# EAGLE library part SN76489 (library 07-Retrocomputing)
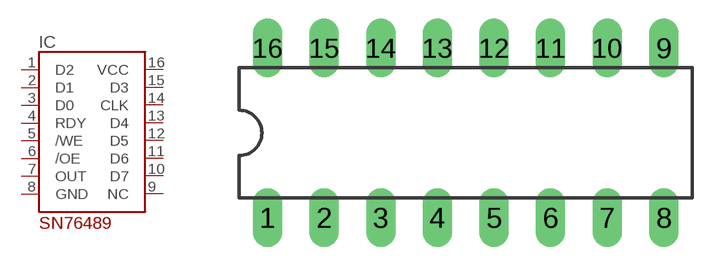
[diagram p24: symbol with the pads of DIL16; footprint DIL16]

Designator prefix IC

## SN76489  [DIL16]
1  D2
2  D1
3  D0
4  RDY
5  /WE
6  /OE
7  OUT
8  GND
9  NC
10  D7
11  D6
12  D5
13  D4
14  CLK
15  D3
16  VCC

## Footprint DIL16 (pad centres in mm)
Dual In Line Package
drill 0.813 long: 1 -8.89,-3.81; 2 -6.35,-3.81; 3 -3.81,-3.81; 4 -1.27,-3.81; 5 1.27,-3.81; 6 3.81,-3.81; 7 6.35,-3.81; 8 8.89,-3.81; 9 8.89,3.81; 10 6.35,3.81; 11 3.81,3.81; 12 1.27,3.81; 13 -1.27,3.81; 14 -3.81,3.81; 15 -6.35,3.81; 16 -8.89,3.81